# Altium schematic symbol library LM335AZNOPB.SchLib: 1 symbol
Pins are listed as number, name and electrical type; pins without a type are passive.

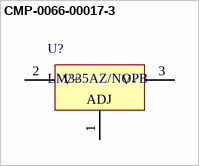
[diagram p0: symbol CMP-0066-00017-3]

## CMP-0066-00017-3
designator U?, comment LM335AZ/NOPB
Precision Temperature Sensor, 3-pin TO-92, Pb-Free; Manufacturer: Texas Instruments; PowerWise: N; CompType: Temp Sensor IC; PackageTopMarking: NSXYTT*LM335*AZ; PinCount: 3; ComponentLink1URL: http://www.ti.com/general/docs/lit/getliterature.tsp?genericPartNumber=LM335&fileType=pdf; Code_JEDEC: TO-226-AA; RoHS: Y; ComponentLink1Description: Datasheet URL; PackageReference: LP0003A; PackageDescription: TO-92, Molded, 3 Lead
footprint LP0003A (TO, Flat Index; 3 In-Line, Formed Axial Leads; Body Dia. 4.8mm; Leads 0.56 x 0.41 mm (max))
pins: 1 ADJ, 2 V+, 3 V-